# EAGLE library part 10PIN (library con-yaala)
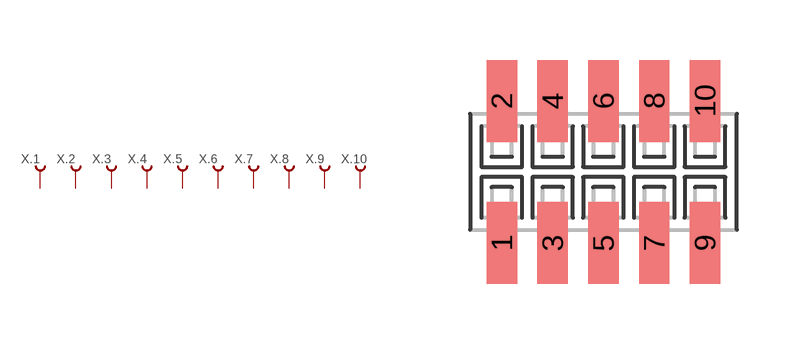
[diagram p2: symbol with the pads of 1296-10; footprint 1296-10]

Designator prefix X; gates .1=KONTAKT .2=KONTAKT .3=KONTAKT .4=KONTAKT .5=KONTAKT .6=KONTAKT .7=KONTAKT .8=KONTAKT .9=KONTAKT .10=KONTAKT

## 10PIN_LEOTRONICS_1296-10 (OC_FARNELL: unknown; OC_NEWARK: unknown)  [1296-10]
1  .1:1  pas
2  .2:1  pas
3  .3:1  pas
4  .4:1  pas
5  .5:1  pas
6  .6:1  pas
7  .7:1  pas
8  .8:1  pas
9  .9:1  pas
10  .10:1  pas

## Footprint 1296-10 (pad centres in mm)
1.27mm DOUBLE ROW FEMALE SOCKET Source: http://www.leotronics.co.uk/Conexcon/Data%20Sheets/sec.%20A/1296ing.pdf
smd 0.76 x 2.05: 1 -2.54,-1.78; 2 -2.54,1.78; 3 -1.27,-1.78; 4 -1.27,1.78; 5 0,-1.78; 6 0,1.78; 7 1.27,-1.78; 8 1.27,1.78; 9 2.54,-1.78; 10 2.54,1.78